# Altium integrated library Oscillator - Crystal.IntLib: 422 symbols (part 2 of 7)
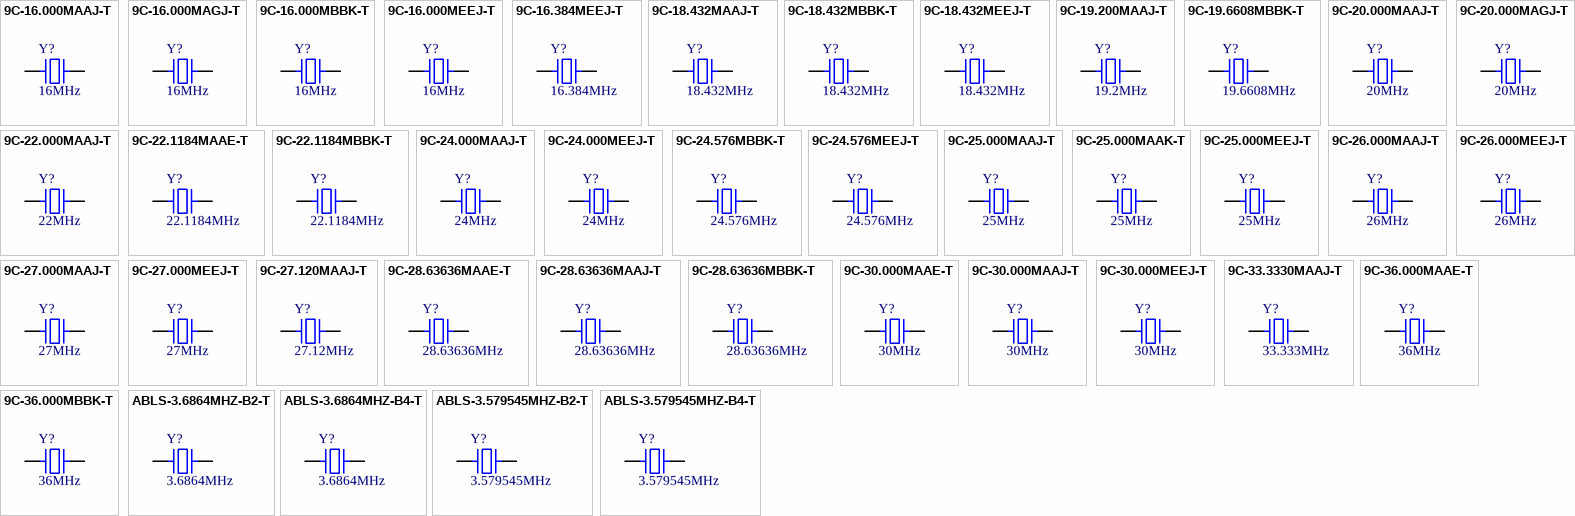
[diagram p11: symbols 9C-16.000MAAJ-T to ABLS-3.579545MHZ-B4-T]

## 9C-30.000MAAE-T
designator Y?, comment 30MHz
CRYSTAL 30.0000MHZ 12PF SMD; Part Number: 9C-30.000MAAE-T; Manufacturer: TXC CORPORATION; Frequency Stability: 30ppm; ESR: 40 Ohm; Operating Mode: Fundamental; PartId: 8710; Supplier 1: Digi-Key; Supplier Part Number 1: 887-2452-2-ND; ComponentLink1Description: Datasheet; ComponentLink1URL: http://www.txccrystal.com/images/pdf/9c.pdf; ComponentLink2Description: Digi-Key Listing; ComponentLink2URL: https://www.digikey.com/product-detail/en/9C-30.000MAAE-T/887-2452-2-ND/3674384; Price: 0.208; Type: MHz Crystal; Device Package: HC-49S; Series: 9C; Frequency: 30MHz; Frequency Tolerance: 30ppm; Load Capacitance: 12pF
footprint TXC 9C
pins: 1, 2

## 9C-30.000MAAJ-T
designator Y?, comment 30MHz
CRYSTAL 30.0000MHZ 18PF SMD; Part Number: 9C-30.000MAAJ-T; Manufacturer: TXC CORPORATION; Frequency Stability: 30ppm; ESR: 30 Ohm; Operating Mode: Fundamental; PartId: 8718; Supplier 1: Digi-Key; Supplier Part Number 1: 887-1072-2-ND; ComponentLink1Description: Datasheet; ComponentLink1URL: http://www.txccrystal.com/images/pdf/9c.pdf; ComponentLink2Description: Digi-Key Listing; ComponentLink2URL: https://www.digikey.com/product-detail/en/9C-30.000MAAJ-T/887-1072-2-ND/2118756; Price: 0.224; Type: MHz Crystal; Device Package: HC49/US; Series: 9C; Frequency: 30MHz; Frequency Tolerance: 30ppm; Load Capacitance: 18pF
footprint TXC 9C
pins: 1, 2

## 9C-30.000MEEJ-T
designator Y?, comment 30MHz
CRYSTAL 30.0000MHZ 18PF SMD; Part Number: 9C-30.000MEEJ-T; Manufacturer: TXC CORPORATION; Frequency Stability: 10ppm; ESR: 30 Ohm; Operating Mode: Fundamental; PartId: 8732; Supplier 1: Digi-Key; Supplier Part Number 1: 887-1287-2-ND; ComponentLink1Description: Datasheet; ComponentLink1URL: http://www.txccrystal.com/images/pdf/9c-accuracy.pdf; ComponentLink2Description: Digi-Key Listing; ComponentLink2URL: https://www.digikey.com/product-detail/en/9C-30.000MEEJ-T/887-1287-2-ND/2207707; Price: 0.288; Type: MHz Crystal; Device Package: HC49/US; Series: 9C; Frequency: 30MHz; Frequency Tolerance: 10ppm; Load Capacitance: 18pF
footprint TXC 9C
pins: 1, 2

## 9C-33.3330MAAJ-T
designator Y?, comment 33.333MHz
CRYSTAL 33.3330MHZ 18PF SMD; Part Number: 9C-33.3330MAAJ-T; Manufacturer: TXC CORPORATION; Frequency Stability: 30ppm; ESR: 80 Ohm; Operating Mode: 3rd Overtone; PartId: 8694; Supplier 1: Digi-Key; Supplier Part Number 1: 887-2458-2-ND; ComponentLink1Description: Datasheet; ComponentLink1URL: http://www.txccrystal.com/images/pdf/9c.pdf; ComponentLink2Description: Digi-Key Listing; ComponentLink2URL: https://www.digikey.com/product-detail/en/9C-33.3330MAAJ-T/887-2458-2-ND/4475370; Price: 0.224; Type: MHz Crystal; Device Package: HC-49S; Series: 9C; Frequency: 33.333MHz; Frequency Tolerance: 30ppm; Load Capacitance: 18pF
footprint TXC 9C
pins: 1, 2

## 9C-36.000MAAE-T
designator Y?, comment 36MHz
CRYSTAL 36.0000MHZ 12PF SMD; Part Number: 9C-36.000MAAE-T; Manufacturer: TXC CORPORATION; Frequency Stability: 30ppm; ESR: 80 Ohm; Operating Mode: 3rd Overtone; PartId: 8711; Supplier 1: Digi-Key; Supplier Part Number 1: 887-1937-2-ND; ComponentLink1Description: Datasheet; ComponentLink1URL: http://www.txccrystal.com/images/pdf/9c.pdf; ComponentLink2Description: Digi-Key Listing; ComponentLink2URL: https://www.digikey.com/product-detail/en/9C-36.000MAAE-T/887-1937-2-ND/3679811; Price: 0.208; Type: MHz Crystal; Device Package: HC-49S; Series: 9C; Frequency: 36MHz; Frequency Tolerance: 30ppm; Load Capacitance: 12pF
footprint TXC 9C
pins: 1, 2

## 9C-36.000MBBK-T
designator Y?, comment 36MHz
CRYSTAL 36.0000MHZ 20PF SMD; Part Number: 9C-36.000MBBK-T; Manufacturer: TXC CORPORATION; Frequency Stability: 50ppm; ESR: 80 Ohm; Operating Mode: 3rd Overtone; PartId: 8733; Supplier 1: Digi-Key; Supplier Part Number 1: 887-2460-2-ND; ComponentLink1Description: Datasheet; ComponentLink1URL: http://www.txccrystal.com/images/pdf/9c.pdf; ComponentLink2Description: Digi-Key Listing; ComponentLink2URL: https://www.digikey.com/product-detail/en/9C-36.000MBBK-T/887-2460-2-ND/3522032; Price: 0.192; Type: MHz Crystal; Device Package: HC-49S; Series: 9C; Frequency: 36MHz; Frequency Tolerance: 50ppm; Load Capacitance: 20pF
footprint TXC 9C
pins: 1, 2

## ABLS-3.6864MHZ-B2-T
designator Y?, comment 3.6864MHz
CRYSTAL 3.6864MHZ 18PF SMD; Part Number: ABLS-3.6864MHZ-B2-T; Manufacturer: Abracon LLC; Frequency Stability: 50ppm; Frequency Tolerance: 20ppm; ESR: 180 Ohm; Operating Mode: Fundamental; PartId: 8568; Supplier 1: Digi-Key; Supplier Part Number 1: 535-9082-2-ND; ComponentLink1Description: Datasheet; ComponentLink1URL: http://www.abracon.com/Resonators/abls.pdf; ComponentLink2Description: Digi-Key Listing; ComponentLink2URL: https://www.digikey.com/product-detail/en/ABLS-3.6864MHZ-B2-T/535-9082-2-ND/675277; Price: 0.176; Type: MHz Crystal; Device Package: HC49/US; Series: ABLS; Frequency: 3.6864MHz; Load Capacitance: 18pF
footprint ABRACON ABLS
pins: 1, 2

## ABLS-3.6864MHZ-B4-T
designator Y?, comment 3.6864MHz
CRYSTAL 3.6864MHZ 18PF SMD; Part Number: ABLS-3.6864MHZ-B4-T; Manufacturer: Abracon LLC; Frequency Stability: 50ppm; Frequency Tolerance: 30ppm; ESR: 180 Ohm; Operating Mode: Fundamental; PartId: 8562; Supplier 1: Digi-Key; Supplier Part Number 1: 535-10201-2-ND; ComponentLink1Description: Datasheet; ComponentLink1URL: http://www.abracon.com/Resonators/abls.pdf; ComponentLink2Description: Digi-Key Listing; ComponentLink2URL: https://www.digikey.com/product-detail/en/ABLS-3.6864MHZ-B4-T/535-10201-2-ND/2184144; Price: 0.176; Type: MHz Crystal; Device Package: HC49/US; Series: ABLS; Frequency: 3.6864MHz; Load Capacitance: 18pF
footprint ABRACON ABLS
pins: 1, 2

## ABLS-3.579545MHZ-B2-T
designator Y?, comment 3.579545MHz
CRYSTAL 3.579545MHZ 18PF SMD; Part Number: ABLS-3.579545MHZ-B2-T; Manufacturer: Abracon LLC; Frequency Stability: 50ppm; Frequency Tolerance: 20ppm; ESR: 180 Ohm; Operating Mode: Fundamental; PartId: 8543; Supplier 1: Digi-Key; Supplier Part Number 1: 535-9081-2-ND; ComponentLink1Description: Datasheet; ComponentLink1URL: http://www.abracon.com/Resonators/abls.pdf; ComponentLink2Description: Digi-Key Listing; ComponentLink2URL: https://www.digikey.com/product-detail/en/ABLS-3.579545MHZ-B2-T/535-9081-2-ND/675276; Price: 0.176; Type: MHz Crystal; Device Package: HC49/US; Frequency: 3.579545MHz; Load Capacitance: 18pF
footprint ABRACON ABLS
pins: 1, 2

## ABLS-3.579545MHZ-B4-T
designator Y?, comment 3.579545MHz
CRYSTAL 3.579545MHZ 18PF SMD; Part Number: ABLS-3.579545MHZ-B4-T; Manufacturer: Abracon LLC; Frequency Stability: 50ppm; Frequency Tolerance: 30ppm; ESR: 180 Ohm; Operating Mode: Fundamental; PartId: 8544; Supplier 1: Digi-Key; Supplier Part Number 1: 535-10200-2-ND; ComponentLink1Description: Datasheet; ComponentLink1URL: http://www.abracon.com/Resonators/abls.pdf; ComponentLink2Description: Digi-Key Listing; ComponentLink2URL: https://www.digikey.com/product-detail/en/ABLS-3.579545MHZ-B4-T/535-10200-2-ND/2184143; Price: 0.176; Type: MHz Crystal; Device Package: HC49/US; Frequency: 3.579545MHz; Load Capacitance: 18pF
footprint ABRACON ABLS
pins: 1, 2

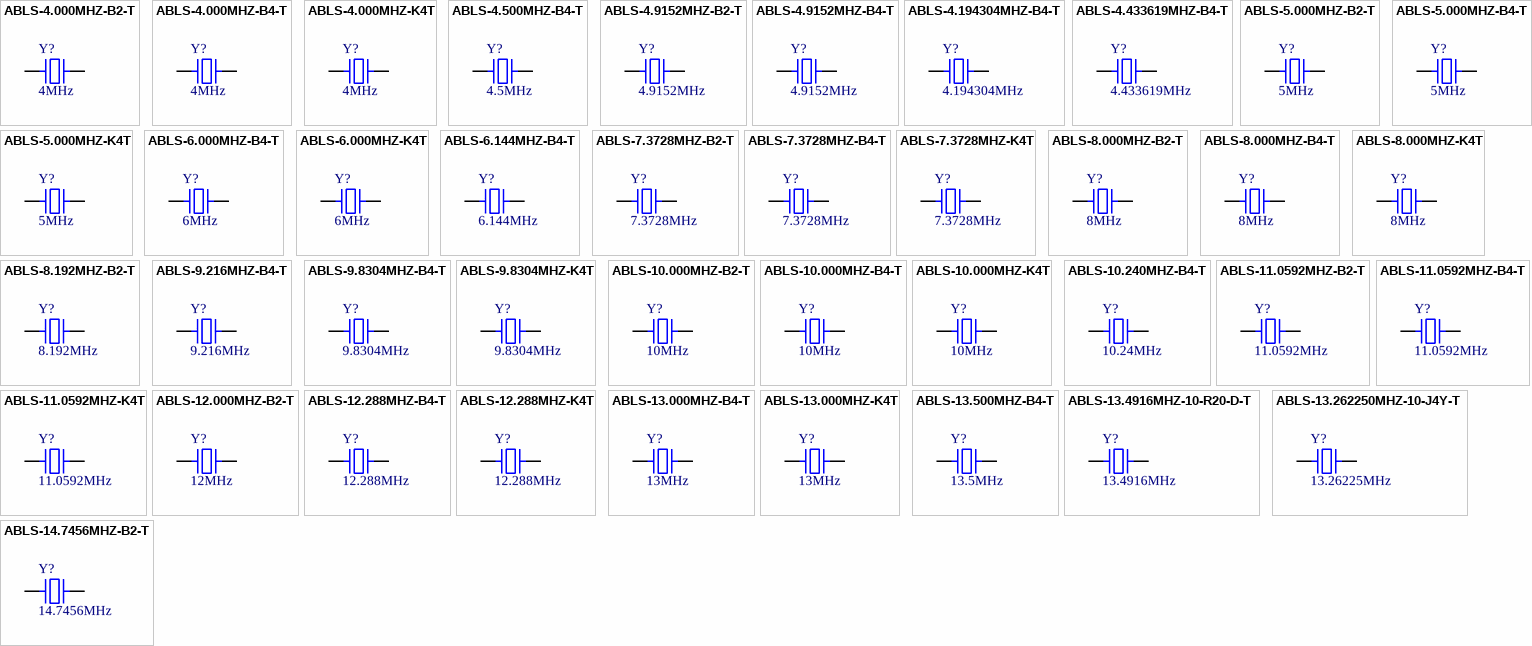
[diagram p2: symbols ABLS-4.000MHZ-B2-T to ABLS-14.7456MHZ-B2-T]

## ABLS-4.000MHZ-B2-T
designator Y?, comment 4MHz
CRYSTAL 4.0000MHZ 18PF SMD; Part Number: ABLS-4.000MHZ-B2-T; Manufacturer: Abracon LLC; Frequency Stability: 50ppm; Frequency Tolerance: 20ppm; ESR: 180 Ohm; Operating Mode: Fundamental; PartId: 8555; Supplier 1: Digi-Key; Supplier Part Number 1: 535-9085-2-ND; ComponentLink1Description: Datasheet; ComponentLink1URL: http://www.abracon.com/Resonators/abls.pdf; ComponentLink2Description: Digi-Key Listing; ComponentLink2URL: https://www.digikey.com/product-detail/en/ABLS-4.000MHZ-B2-T/535-9085-2-ND/675280; Price: 0.144; Type: MHz Crystal; Device Package: HC49/US; Series: ABLS; Frequency: 4MHz; Load Capacitance: 18pF
footprint ABRACON ABLS
pins: 1, 2

## ABLS-4.000MHZ-B4-T
designator Y?, comment 4MHz
CRYSTAL 4.0000MHZ 18PF SMD; Part Number: ABLS-4.000MHZ-B4-T; Manufacturer: Abracon LLC; Frequency Stability: 50ppm; Frequency Tolerance: 30ppm; ESR: 180 Ohm; Operating Mode: Fundamental; PartId: 8564; Supplier 1: Digi-Key; Supplier Part Number 1: 535-10202-2-ND; ComponentLink1Description: Datasheet; ComponentLink1URL: http://www.abracon.com/Resonators/abls.pdf; ComponentLink2Description: Digi-Key Listing; ComponentLink2URL: https://www.digikey.com/product-detail/en/ABLS-4.000MHZ-B4-T/535-10202-2-ND/2184145; Price: 0.176; Type: MHz Crystal; Device Package: HC49/US; Series: ABLS; Frequency: 4MHz; Load Capacitance: 18pF
footprint ABRACON ABLS
pins: 1, 2

## ABLS-4.000MHZ-K4T
designator Y?, comment 4MHz
CRYSTAL 4.0000MHZ 18PF SMD; Part Number: ABLS-4.000MHZ-K4T; Manufacturer: Abracon LLC; Frequency Stability: 50ppm; Frequency Tolerance: 30ppm; ESR: 180 Ohm; Operating Mode: Fundamental; PartId: 8578; Supplier 1: Digi-Key; Supplier Part Number 1: 535-9930-2-ND; ComponentLink1Description: Datasheet; ComponentLink1URL: http://www.abracon.com/Resonators/abls.pdf; ComponentLink2Description: Digi-Key Listing; ComponentLink2URL: https://www.digikey.com/product-detail/en/ABLS-4.000MHZ-K4T/535-9930-2-ND/2001297; Price: 0.405; Type: MHz Crystal; Device Package: HC49/US; Series: ABLS; Frequency: 4MHz; Load Capacitance: 18pF
footprint ABRACON ABLS
pins: 1, 2

## ABLS-4.500MHZ-B4-T
designator Y?, comment 4.5MHz
CRYSTAL 4.5000MHZ 18PF SMD; Part Number: ABLS-4.500MHZ-B4-T; Manufacturer: Abracon LLC; Frequency Stability: 50ppm; Frequency Tolerance: 30ppm; ESR: 180 Ohm; Operating Mode: Fundamental; PartId: 8585; Supplier 1: Digi-Key; Supplier Part Number 1: 535-10205-2-ND; ComponentLink1Description: Datasheet; ComponentLink1URL: http://www.abracon.com/Resonators/abls.pdf; ComponentLink2Description: Digi-Key Listing; ComponentLink2URL: https://www.digikey.com/product-detail/en/ABLS-4.500MHZ-B4-T/535-10205-2-ND/2184148; Price: 0.176; Type: MHz Crystal; Device Package: HC49/US; Series: ABLS; Frequency: 4.5MHz; Load Capacitance: 18pF
footprint ABRACON ABLS
pins: 1, 2

## ABLS-4.9152MHZ-B2-T
designator Y?, comment 4.9152MHz
CRYSTAL 4.9152MHZ 18PF SMD; Part Number: ABLS-4.9152MHZ-B2-T; Manufacturer: Abracon LLC; Frequency Stability: 50ppm; Frequency Tolerance: 20ppm; ESR: 180 Ohm; Operating Mode: Fundamental; PartId: 8574; Supplier 1: Digi-Key; Supplier Part Number 1: 535-9086-2-ND; ComponentLink1Description: Datasheet; ComponentLink1URL: http://www.abracon.com/Resonators/abls.pdf; ComponentLink2Description: Digi-Key Listing; ComponentLink2URL: https://www.digikey.com/product-detail/en/ABLS-4.9152MHZ-B2-T/535-9086-2-ND/675281; Price: 0.24; Type: MHz Crystal; Device Package: HC49/US; Series: ABLS; Frequency: 4.9152MHz; Load Capacitance: 18pF
footprint ABRACON ABLS
pins: 1, 2

## ABLS-4.9152MHZ-B4-T
designator Y?, comment 4.9152MHz
CRYSTAL 4.9152MHZ 18PF SMD; Part Number: ABLS-4.9152MHZ-B4-T; Manufacturer: Abracon LLC; Frequency Stability: 50ppm; Frequency Tolerance: 30ppm; ESR: 180 Ohm; Operating Mode: Fundamental; PartId: 8602; Supplier 1: Digi-Key; Supplier Part Number 1: 535-10206-2-ND; ComponentLink1Description: Datasheet; ComponentLink1URL: http://www.abracon.com/Resonators/abls.pdf; ComponentLink2Description: Digi-Key Listing; ComponentLink2URL: https://www.digikey.com/product-detail/en/ABLS-4.9152MHZ-B4-T/535-10206-2-ND/2184149; Price: 0.176; Type: MHz Crystal; Device Package: HC49/US; Series: ABLS; Frequency: 4.9152MHz; Load Capacitance: 18pF
footprint ABRACON ABLS
pins: 1, 2

## ABLS-4.194304MHZ-B4-T
designator Y?, comment 4.194304MHz
CRYSTAL 4.194304MHZ 18PF SMD; Part Number: ABLS-4.194304MHZ-B4-T; Manufacturer: Abracon LLC; Frequency Stability: 50ppm; Frequency Tolerance: 30ppm; ESR: 180 Ohm; Operating Mode: Fundamental; PartId: 8597; Supplier 1: Digi-Key; Supplier Part Number 1: 535-10203-2-ND; ComponentLink1Description: Datasheet; ComponentLink1URL: http://www.abracon.com/Resonators/abls.pdf; ComponentLink2Description: Digi-Key Listing; ComponentLink2URL: https://www.digikey.com/product-detail/en/ABLS-4.194304MHZ-B4-T/535-10203-2-ND/2184146; Price: 0.176; Type: MHz Crystal; Device Package: HC49/US; Series: ABLS; Frequency: 4.194304MHz; Load Capacitance: 18pF
footprint ABRACON ABLS
pins: 1, 2

## ABLS-4.433619MHZ-B4-T
designator Y?, comment 4.433619MHz
CRYSTAL 4.433619MHZ 18PF SMD; Part Number: ABLS-4.433619MHZ-B4-T; Manufacturer: Abracon LLC; Frequency Stability: 50ppm; Frequency Tolerance: 30ppm; ESR: 180 Ohm; Operating Mode: Fundamental; PartId: 8584; Supplier 1: Digi-Key; Supplier Part Number 1: 535-10204-2-ND; ComponentLink1Description: Datasheet; ComponentLink1URL: http://www.abracon.com/Resonators/abls.pdf; ComponentLink2Description: Digi-Key Listing; ComponentLink2URL: https://www.digikey.com/product-detail/en/ABLS-4.433619MHZ-B4-T/535-10204-2-ND/2184147; Price: 0.176; Type: MHz Crystal; Device Package: HC49/US; Series: ABLS; Frequency: 4.433619MHz; Load Capacitance: 18pF
footprint ABRACON ABLS
pins: 1, 2

## ABLS-5.000MHZ-B2-T
designator Y?, comment 5MHz
CRYSTAL 5.0000MHZ 18PF SMD; Part Number: ABLS-5.000MHZ-B2-T; Manufacturer: Abracon LLC; Frequency Stability: 50ppm; Frequency Tolerance: 20ppm; ESR: 120 Ohm; Operating Mode: Fundamental; PartId: 8609; Supplier 1: Digi-Key; Supplier Part Number 1: 535-9087-2-ND; ComponentLink1Description: Datasheet; ComponentLink1URL: http://www.abracon.com/Resonators/abls.pdf; ComponentLink2Description: Digi-Key Listing; ComponentLink2URL: https://www.digikey.com/product-detail/en/ABLS-5.000MHZ-B2-T/535-9087-2-ND/675282; Price: 0.24; Type: MHz Crystal; Device Package: HC49/US; Series: ABLS; Frequency: 5MHz; Load Capacitance: 18pF
footprint ABRACON ABLS
pins: 1, 2

## ABLS-5.000MHZ-B4-T
designator Y?, comment 5MHz
CRYSTAL 5.0000MHZ 18PF SMD; Part Number: ABLS-5.000MHZ-B4-T; Manufacturer: Abracon LLC; Frequency Stability: 50ppm; Frequency Tolerance: 30ppm; ESR: 120 Ohm; Operating Mode: Fundamental; PartId: 8569; Supplier 1: Digi-Key; Supplier Part Number 1: 535-10207-2-ND; ComponentLink1Description: Datasheet; ComponentLink1URL: http://www.abracon.com/Resonators/abls.pdf; ComponentLink2Description: Digi-Key Listing; ComponentLink2URL: https://www.digikey.com/product-detail/en/ABLS-5.000MHZ-B4-T/535-10207-2-ND/2184150; Price: 0.176; Type: MHz Crystal; Device Package: HC49/US; Series: ABLS; Frequency: 5MHz; Load Capacitance: 18pF
footprint ABRACON ABLS
pins: 1, 2

## ABLS-5.000MHZ-K4T
designator Y?, comment 5MHz
CRYSTAL 5.0000MHZ 18PF SMD; Part Number: ABLS-5.000MHZ-K4T; Manufacturer: Abracon LLC; Frequency Stability: 50ppm; Frequency Tolerance: 30ppm; ESR: 120 Ohm; Operating Mode: Fundamental; PartId: 8592; Supplier 1: Digi-Key; Supplier Part Number 1: 535-9933-2-ND; ComponentLink1Description: Datasheet; ComponentLink1URL: http://www.abracon.com/Resonators/abls.pdf; ComponentLink2Description: Digi-Key Listing; ComponentLink2URL: https://www.digikey.com/product-detail/en/ABLS-5.000MHZ-K4T/535-9933-2-ND/2001300; Price: 0.405; Type: MHz Crystal; Device Package: HC49/US; Series: ABLS; Frequency: 5MHz; Load Capacitance: 18pF
footprint ABRACON ABLS
pins: 1, 2

## ABLS-6.000MHZ-B4-T
designator Y?, comment 6MHz
CRYSTAL 6.0000MHZ 18PF SMD; Part Number: ABLS-6.000MHZ-B4-T; Manufacturer: Abracon LLC; Frequency Stability: 50ppm; Frequency Tolerance: 30ppm; ESR: 100 Ohm; Operating Mode: Fundamental; PartId: 8561; Supplier 1: Digi-Key; Supplier Part Number 1: 535-10208-2-ND; ComponentLink1Description: Datasheet; ComponentLink1URL: http://www.abracon.com/Resonators/abls.pdf; ComponentLink2Description: Digi-Key Listing; ComponentLink2URL: https://www.digikey.com/product-detail/en/ABLS-6.000MHZ-B4-T/535-10208-2-ND/2184151; Price: 0.176; Type: MHz Crystal; Device Package: HC49/US; Series: ABLS; Frequency: 6MHz; Load Capacitance: 18pF
footprint ABRACON ABLS
pins: 1, 2

## ABLS-6.000MHZ-K4T
designator Y?, comment 6MHz
CRYSTAL 6.0000MHZ 18PF SMD; Part Number: ABLS-6.000MHZ-K4T; Manufacturer: Abracon LLC; Frequency Stability: 50ppm; Frequency Tolerance: 30ppm; ESR: 100 Ohm; Operating Mode: Fundamental; PartId: 8590; Supplier 1: Digi-Key; Supplier Part Number 1: 535-9934-2-ND; ComponentLink1Description: Datasheet; ComponentLink1URL: http://www.abracon.com/Resonators/abls.pdf; ComponentLink2Description: Digi-Key Listing; ComponentLink2URL: https://www.digikey.com/product-detail/en/ABLS-6.000MHZ-K4T/535-9934-2-ND/2001301; Price: 0.405; Type: MHz Crystal; Device Package: HC49/US; Series: ABLS; Frequency: 6MHz; Load Capacitance: 18pF
footprint ABRACON ABLS
pins: 1, 2

## ABLS-6.144MHZ-B4-T
designator Y?, comment 6.144MHz
CRYSTAL 6.1440MHZ 18PF SMD; Part Number: ABLS-6.144MHZ-B4-T; Manufacturer: Abracon LLC; Frequency Stability: 50ppm; Frequency Tolerance: 30ppm; ESR: 100 Ohm; Operating Mode: Fundamental; PartId: 8570; Supplier 1: Digi-Key; Supplier Part Number 1: 535-10209-2-ND; ComponentLink1Description: Datasheet; ComponentLink1URL: http://www.abracon.com/Resonators/abls.pdf; ComponentLink2Description: Digi-Key Listing; ComponentLink2URL: https://www.digikey.com/product-detail/en/ABLS-6.144MHZ-B4-T/535-10209-2-ND/2184152; Price: 0.176; Type: MHz Crystal; Device Package: HC49/US; Series: ABLS; Frequency: 6.144MHz; Load Capacitance: 18pF
footprint ABRACON ABLS
pins: 1, 2

## ABLS-7.3728MHZ-B2-T
designator Y?, comment 7.3728MHz
CRYSTAL 7.3728MHZ 18PF SMD; Part Number: ABLS-7.3728MHZ-B2-T; Manufacturer: Abracon LLC; Frequency Stability: 50ppm; Frequency Tolerance: 20ppm; ESR: 100 Ohm; Operating Mode: Fundamental; PartId: 8550; Supplier 1: Digi-Key; Supplier Part Number 1: 535-9088-2-ND; ComponentLink1Description: Datasheet; ComponentLink1URL: http://www.abracon.com/Resonators/abls.pdf; ComponentLink2Description: Digi-Key Listing; ComponentLink2URL: https://www.digikey.com/product-detail/en/ABLS-7.3728MHZ-B2-T/535-9088-2-ND/675283; Price: 0.144; Type: MHz Crystal; Device Package: HC49/US; Series: ABLS; Frequency: 7.3728MHz; Load Capacitance: 18pF
footprint ABRACON ABLS
pins: 1, 2

## ABLS-7.3728MHZ-B4-T
designator Y?, comment 7.3728MHz
CRYSTAL 7.3728MHZ 18PF SMD; Part Number: ABLS-7.3728MHZ-B4-T; Manufacturer: Abracon LLC; Frequency Stability: 50ppm; Frequency Tolerance: 30ppm; ESR: 100 Ohm; Operating Mode: Fundamental; PartId: 8563; Supplier 1: Digi-Key; Supplier Part Number 1: 535-10211-2-ND; ComponentLink1Description: Datasheet; ComponentLink1URL: http://www.abracon.com/Resonators/abls.pdf; ComponentLink2Description: Digi-Key Listing; ComponentLink2URL: https://www.digikey.com/product-detail/en/ABLS-7.3728MHZ-B4-T/535-10211-2-ND/2184154; Price: 0.176; Type: MHz Crystal; Device Package: HC49/US; Series: ABLS; Frequency: 7.3728MHz; Load Capacitance: 18pF
footprint ABRACON ABLS
pins: 1, 2

## ABLS-7.3728MHZ-K4T
designator Y?, comment 7.3728MHz
CRYSTAL 7.3728MHZ 18PF SMD; Part Number: ABLS-7.3728MHZ-K4T; Manufacturer: Abracon LLC; Frequency Stability: 50ppm; Frequency Tolerance: 30ppm; ESR: 100 Ohm; Operating Mode: Fundamental; PartId: 8612; Supplier 1: Digi-Key; Supplier Part Number 1: 535-9936-2-ND; ComponentLink1Description: Datasheet; ComponentLink1URL: http://www.abracon.com/Resonators/abls.pdf; ComponentLink2Description: Digi-Key Listing; ComponentLink2URL: https://www.digikey.com/product-detail/en/ABLS-7.3728MHZ-K4T/535-9936-2-ND/2001303; Price: 0.405; Type: MHz Crystal; Device Package: HC49/US; Series: ABLS; Frequency: 7.3728MHz; Load Capacitance: 18pF
footprint ABRACON ABLS
pins: 1, 2

## ABLS-8.000MHZ-B2-T
designator Y?, comment 8MHz
CRYSTAL 8.0000MHZ 18PF SMD; Part Number: ABLS-8.000MHZ-B2-T; Manufacturer: Abracon LLC; Frequency Stability: 50ppm; Frequency Tolerance: 20ppm; ESR: 80 Ohm; Operating Mode: Fundamental; PartId: 8547; Supplier 1: Digi-Key; Supplier Part Number 1: 535-9089-2-ND; ComponentLink1Description: Datasheet; ComponentLink1URL: http://www.abracon.com/Resonators/abls.pdf; ComponentLink2Description: Digi-Key Listing; ComponentLink2URL: https://www.digikey.com/product-detail/en/ABLS-8.000MHZ-B2-T/535-9089-2-ND/675284; Price: 0.144; Type: MHz Crystal; Device Package: HC49/US; Series: ABLS; Frequency: 8MHz; Load Capacitance: 18pF
footprint ABRACON ABLS
pins: 1, 2

## ABLS-8.000MHZ-B4-T
designator Y?, comment 8MHz
CRYSTAL 8.0000MHZ 18PF SMD; Part Number: ABLS-8.000MHZ-B4-T; Manufacturer: Abracon LLC; Frequency Stability: 50ppm; Frequency Tolerance: 30ppm; ESR: 80 Ohm; Operating Mode: Fundamental; PartId: 8545; Supplier 1: Digi-Key; Supplier Part Number 1: 535-10212-2-ND; ComponentLink1Description: Datasheet; ComponentLink1URL: http://www.abracon.com/Resonators/abls.pdf; ComponentLink2Description: Digi-Key Listing; ComponentLink2URL: https://www.digikey.com/product-detail/en/ABLS-8.000MHZ-B4-T/535-10212-2-ND/2184155; Price: 0.1376; Type: MHz Crystal; Device Package: HC49/US; Series: ABLS; Frequency: 8MHz; Load Capacitance: 18pF
footprint ABRACON ABLS
pins: 1, 2

## ABLS-8.000MHZ-K4T
designator Y?, comment 8MHz
CRYSTAL 8.0000MHZ 18PF SMD; Part Number: ABLS-8.000MHZ-K4T; Manufacturer: Abracon LLC; Frequency Stability: 50ppm; Frequency Tolerance: 30ppm; ESR: 80 Ohm; Operating Mode: Fundamental; PartId: 8552; Supplier 1: Digi-Key; Supplier Part Number 1: 535-9937-2-ND; ComponentLink1Description: Datasheet; ComponentLink1URL: http://www.abracon.com/Resonators/abls.pdf; ComponentLink2Description: Digi-Key Listing; ComponentLink2URL: https://www.digikey.com/product-detail/en/ABLS-8.000MHZ-K4T/535-9937-2-ND/2001304; Price: 0.375; Type: MHz Crystal; Device Package: HC49/US; Series: ABLS; Frequency: 8MHz; Load Capacitance: 18pF
footprint ABRACON ABLS
pins: 1, 2

## ABLS-8.192MHZ-B2-T
designator Y?, comment 8.192MHz
CRYSTAL 8.1920MHZ 18PF SMD; Part Number: ABLS-8.192MHZ-B2-T; Manufacturer: Abracon LLC; Frequency Stability: 50ppm; Frequency Tolerance: 20ppm; ESR: 80 Ohm; Operating Mode: Fundamental; PartId: 8556; Supplier 1: Digi-Key; Supplier Part Number 1: 535-9090-2-ND; ComponentLink1Description: Datasheet; ComponentLink1URL: http://www.abracon.com/Resonators/abls.pdf; ComponentLink2Description: Digi-Key Listing; ComponentLink2URL: https://www.digikey.com/product-detail/en/ABLS-8.192MHZ-B2-T/535-9090-2-ND/675285; Price: 0.144; Type: MHz Crystal; Device Package: HC49/US; Series: ABLS; Frequency: 8.192MHz; Load Capacitance: 18pF
footprint ABRACON ABLS
pins: 1, 2

## ABLS-9.216MHZ-B4-T
designator Y?, comment 9.216MHz
CRYSTAL 9.2160MHZ 18PF SMD; Part Number: ABLS-9.216MHZ-B4-T; Manufacturer: Abracon LLC; Frequency Stability: 50ppm; Frequency Tolerance: 30ppm; ESR: 60 Ohm; Operating Mode: Fundamental; PartId: 8583; Supplier 1: Digi-Key; Supplier Part Number 1: 535-10213-2-ND; ComponentLink1Description: Datasheet; ComponentLink1URL: http://www.abracon.com/Resonators/abls.pdf; ComponentLink2Description: Digi-Key Listing; ComponentLink2URL: https://www.digikey.com/product-detail/en/ABLS-9.216MHZ-B4-T/535-10213-2-ND/2184156; Price: 0.176; Type: MHz Crystal; Device Package: HC49/US; Series: ABLS; Frequency: 9.216MHz; Load Capacitance: 18pF
footprint ABRACON ABLS
pins: 1, 2

## ABLS-9.8304MHZ-B4-T
designator Y?, comment 9.8304MHz
CRYSTAL 9.8304MHZ 18PF SMD; Part Number: ABLS-9.8304MHZ-B4-T; Manufacturer: Abracon LLC; Frequency Stability: 50ppm; Frequency Tolerance: 30ppm; ESR: 60 Ohm; Operating Mode: Fundamental; PartId: 8565; Supplier 1: Digi-Key; Supplier Part Number 1: 535-10214-2-ND; ComponentLink1Description: Datasheet; ComponentLink1URL: http://www.abracon.com/Resonators/abls.pdf; ComponentLink2Description: Digi-Key Listing; ComponentLink2URL: https://www.digikey.com/product-detail/en/ABLS-9.8304MHZ-B4-T/535-10214-2-ND/2184157; Price: 0.176; Type: MHz Crystal; Device Package: HC49/US; Series: ABLS; Frequency: 9.8304MHz; Load Capacitance: 18pF
footprint ABRACON ABLS
pins: 1, 2

## ABLS-9.8304MHZ-K4T
designator Y?, comment 9.8304MHz
CRYSTAL 9.8304MHZ 18PF SMD; Part Number: ABLS-9.8304MHZ-K4T; Manufacturer: Abracon LLC; Frequency Stability: 50ppm; Frequency Tolerance: 30ppm; ESR: 60 Ohm; Operating Mode: Fundamental; PartId: 8616; Supplier 1: Digi-Key; Supplier Part Number 1: 535-9939-2-ND; ComponentLink1Description: Datasheet; ComponentLink1URL: http://www.abracon.com/Resonators/abls.pdf; ComponentLink2Description: Digi-Key Listing; ComponentLink2URL: https://www.digikey.com/product-detail/en/ABLS-9.8304MHZ-K4T/535-9939-2-ND/2001306; Price: 0.405; Type: MHz Crystal; Device Package: HC49/US; Series: ABLS; Frequency: 9.8304MHz; Load Capacitance: 18pF
footprint ABRACON ABLS
pins: 1, 2

## ABLS-10.000MHZ-B2-T
designator Y?, comment 10MHz
CRYSTAL 10.0000MHZ 18PF SMD; Part Number: ABLS-10.000MHZ-B2-T; Manufacturer: Abracon LLC; Frequency Stability: 50ppm; Frequency Tolerance: 20ppm; ESR: 50 Ohm; Operating Mode: Fundamental; PartId: 8554; Supplier 1: Digi-Key; Supplier Part Number 1: 535-9065-2-ND; ComponentLink1Description: Datasheet; ComponentLink1URL: http://www.abracon.com/Resonators/abls.pdf; ComponentLink2Description: Digi-Key Listing; ComponentLink2URL: https://www.digikey.com/product-detail/en/ABLS-10.000MHZ-B2-T/535-9065-2-ND/675260; Price: 0.144; Type: MHz Crystal; Device Package: HC49/US; Series: ABLS; Frequency: 10MHz; Load Capacitance: 18pF
footprint ABRACON ABLS
pins: 1, 2

## ABLS-10.000MHZ-B4-T
designator Y?, comment 10MHz
CRYSTAL 10.0000MHZ 18PF SMD; Part Number: ABLS-10.000MHZ-B4-T; Manufacturer: Abracon LLC; Frequency Stability: 50ppm; Frequency Tolerance: 30ppm; ESR: 50 Ohm; Operating Mode: Fundamental; PartId: 8558; Supplier 1: Digi-Key; Supplier Part Number 1: 535-10215-2-ND; ComponentLink1Description: Datasheet; ComponentLink1URL: http://www.abracon.com/Resonators/abls.pdf; ComponentLink2Description: Digi-Key Listing; ComponentLink2URL: https://www.digikey.com/product-detail/en/ABLS-10.000MHZ-B4-T/535-10215-2-ND/2184158; Price: 0.16; Type: MHz Crystal; Device Package: HC49/US; Series: ABLS; Frequency: 10MHz; Load Capacitance: 18pF
footprint ABRACON ABLS
pins: 1, 2

## ABLS-10.000MHZ-K4T
designator Y?, comment 10MHz
CRYSTAL 10.0000MHZ 18PF SMD; Part Number: ABLS-10.000MHZ-K4T; Manufacturer: Abracon LLC; Frequency Stability: 50ppm; Frequency Tolerance: 30ppm; ESR: 50 Ohm; Operating Mode: Fundamental; PartId: 8551; Supplier 1: Digi-Key; Supplier Part Number 1: 535-9940-2-ND; ComponentLink1Description: Datasheet; ComponentLink1URL: http://www.abracon.com/Resonators/abls.pdf; ComponentLink2Description: Digi-Key Listing; ComponentLink2URL: https://www.digikey.com/product-detail/en/ABLS-10.000MHZ-K4T/535-9940-2-ND/2001307; Price: 0.375; Type: MHz Crystal; Device Package: HC49/US; Series: ABLS; Frequency: 10MHz; Load Capacitance: 18pF
footprint ABRACON ABLS
pins: 1, 2

## ABLS-10.240MHZ-B4-T
designator Y?, comment 10.24MHz
CRYSTAL 10.2400MHZ 18PF SMD; Part Number: ABLS-10.240MHZ-B4-T; Manufacturer: Abracon LLC; Frequency Stability: 50ppm; Frequency Tolerance: 30ppm; ESR: 50 Ohm; Operating Mode: Fundamental; PartId: 8595; Supplier 1: Digi-Key; Supplier Part Number 1: 535-10216-2-ND; ComponentLink1Description: Datasheet; ComponentLink1URL: http://www.abracon.com/Resonators/abls.pdf; ComponentLink2Description: Digi-Key Listing; ComponentLink2URL: https://www.digikey.com/product-detail/en/ABLS-10.240MHZ-B4-T/535-10216-2-ND/2184159; Price: 0.176; Type: MHz Crystal; Device Package: HC49/US; Series: ABLS; Frequency: 10.24MHz; Load Capacitance: 18pF
footprint ABRACON ABLS
pins: 1, 2

## ABLS-11.0592MHZ-B2-T
designator Y?, comment 11.0592MHz
CRYSTAL 11.0592MHZ 18PF SMD; Part Number: ABLS-11.0592MHZ-B2-T; Manufacturer: Abracon LLC; Frequency Stability: 50ppm; Frequency Tolerance: 20ppm; ESR: 50 Ohm; Operating Mode: Fundamental; PartId: 8575; Supplier 1: Digi-Key; Supplier Part Number 1: 535-9066-2-ND; ComponentLink1Description: Datasheet; ComponentLink1URL: http://www.abracon.com/Resonators/abls.pdf; ComponentLink2Description: Digi-Key Listing; ComponentLink2URL: https://www.digikey.com/product-detail/en/ABLS-11.0592MHZ-B2-T/535-9066-2-ND/675261; Price: 0.24; Type: MHz Crystal; Device Package: HC49/US; Series: ABLS; Frequency: 11.0592MHz; Load Capacitance: 18pF
footprint ABRACON ABLS
pins: 1, 2

## ABLS-11.0592MHZ-B4-T
designator Y?, comment 11.0592MHz
CRYSTAL 11.0592MHZ 18PF SMD; Part Number: ABLS-11.0592MHZ-B4-T; Manufacturer: Abracon LLC; Frequency Stability: 50ppm; Frequency Tolerance: 30ppm; ESR: 50 Ohm; Operating Mode: Fundamental; PartId: 8601; Supplier 1: Digi-Key; Supplier Part Number 1: 535-10217-2-ND; ComponentLink1Description: Datasheet; ComponentLink1URL: http://www.abracon.com/Resonators/abls.pdf; ComponentLink2Description: Digi-Key Listing; ComponentLink2URL: https://www.digikey.com/product-detail/en/ABLS-11.0592MHZ-B4-T/535-10217-2-ND/2184160; Price: 0.176; Type: MHz Crystal; Device Package: HC49/US; Series: ABLS; Frequency: 11.0592MHz; Load Capacitance: 18pF
footprint ABRACON ABLS
pins: 1, 2

## ABLS-11.0592MHZ-K4T
designator Y?, comment 11.0592MHz
CRYSTAL 11.0592MHZ 18PF SMD; Part Number: ABLS-11.0592MHZ-K4T; Manufacturer: Abracon LLC; Frequency Stability: 50ppm; Frequency Tolerance: 30ppm; ESR: 50 Ohm; Operating Mode: Fundamental; PartId: 8617; Supplier 1: Digi-Key; Supplier Part Number 1: 535-9941-2-ND; ComponentLink1Description: Datasheet; ComponentLink1URL: http://www.abracon.com/Resonators/abls.pdf; ComponentLink2Description: Digi-Key Listing; ComponentLink2URL: https://www.digikey.com/product-detail/en/ABLS-11.0592MHZ-K4T/535-9941-2-ND/2001308; Price: 0.405; Type: MHz Crystal; Device Package: HC49/US; Series: ABLS; Frequency: 11.0592MHz; Load Capacitance: 18pF
footprint ABRACON ABLS
pins: 1, 2

## ABLS-12.000MHZ-B2-T
designator Y?, comment 12MHz
CRYSTAL 12.0000MHZ 18PF SMD; Part Number: ABLS-12.000MHZ-B2-T; Manufacturer: Abracon LLC; Frequency Stability: 50ppm; Frequency Tolerance: 20ppm; ESR: 50 Ohm; Operating Mode: Fundamental; PartId: 8548; Supplier 1: Digi-Key; Supplier Part Number 1: 535-9067-2-ND; ComponentLink1Description: Datasheet; ComponentLink1URL: http://www.abracon.com/Resonators/abls.pdf; ComponentLink2Description: Digi-Key Listing; ComponentLink2URL: https://www.digikey.com/product-detail/en/ABLS-12.000MHZ-B2-T/535-9067-2-ND/675262; Price: 0.144; Type: MHz Crystal; Device Package: HC49/US; Series: ABLS; Frequency: 12MHz; Load Capacitance: 18pF
footprint ABRACON ABLS
pins: 1, 2

## ABLS-12.288MHZ-B4-T
designator Y?, comment 12.288MHz
CRYSTAL 12.2880MHZ 18PF SMD; Part Number: ABLS-12.288MHZ-B4-T; Manufacturer: Abracon LLC; Frequency Stability: 50ppm; Frequency Tolerance: 30ppm; ESR: 50 Ohm; Operating Mode: Fundamental; PartId: 8571; Supplier 1: Digi-Key; Supplier Part Number 1: 535-10219-2-ND; ComponentLink1Description: Datasheet; ComponentLink1URL: http://www.abracon.com/Resonators/abls.pdf; ComponentLink2Description: Digi-Key Listing; ComponentLink2URL: https://www.digikey.com/product-detail/en/ABLS-12.288MHZ-B4-T/535-10219-2-ND/2184162; Price: 0.176; Type: MHz Crystal; Device Package: HC49/US; Series: ABLS; Frequency: 12.288MHz; Load Capacitance: 18pF
footprint ABRACON ABLS
pins: 1, 2

## ABLS-12.288MHZ-K4T
designator Y?, comment 12.288MHz
CRYSTAL 12.2880MHZ 18PF SMD; Part Number: ABLS-12.288MHZ-K4T; Manufacturer: Abracon LLC; Frequency Stability: 50ppm; Frequency Tolerance: 30ppm; ESR: 50 Ohm; Operating Mode: Fundamental; PartId: 8591; Supplier 1: Digi-Key; Supplier Part Number 1: 535-9943-2-ND; ComponentLink1Description: Datasheet; ComponentLink1URL: http://www.abracon.com/Resonators/abls.pdf; ComponentLink2Description: Digi-Key Listing; ComponentLink2URL: https://www.digikey.com/product-detail/en/ABLS-12.288MHZ-K4T/535-9943-2-ND/2001310; Price: 0.405; Type: MHz Crystal; Device Package: HC49/US; Series: ABLS; Frequency: 12.288MHz; Load Capacitance: 18pF
footprint ABRACON ABLS
pins: 1, 2

## ABLS-13.000MHZ-B4-T
designator Y?, comment 13MHz
CRYSTAL 13.0000MHZ 18PF SMD; Part Number: ABLS-13.000MHZ-B4-T; Manufacturer: Abracon LLC; Frequency Stability: 50ppm; Frequency Tolerance: 30ppm; ESR: 50 Ohm; Operating Mode: Fundamental; PartId: 8572; Supplier 1: Digi-Key; Supplier Part Number 1: 535-10220-2-ND; ComponentLink1Description: Datasheet; ComponentLink1URL: http://www.abracon.com/Resonators/abls.pdf; ComponentLink2Description: Digi-Key Listing; ComponentLink2URL: https://www.digikey.com/product-detail/en/ABLS-13.000MHZ-B4-T/535-10220-2-ND/2184163; Price: 0.176; Type: MHz Crystal; Device Package: HC49/US; Series: ABLS; Frequency: 13MHz; Load Capacitance: 18pF
footprint ABRACON ABLS
pins: 1, 2

## ABLS-13.000MHZ-K4T
designator Y?, comment 13MHz
CRYSTAL 13.0000MHZ 18PF SMD; Part Number: ABLS-13.000MHZ-K4T; Manufacturer: Abracon LLC; Frequency Stability: 50ppm; Frequency Tolerance: 30ppm; ESR: 50 Ohm; Operating Mode: Fundamental; PartId: 8619; Supplier 1: Digi-Key; Supplier Part Number 1: 535-9944-2-ND; ComponentLink1Description: Datasheet; ComponentLink1URL: http://www.abracon.com/Resonators/abls.pdf; ComponentLink2Description: Digi-Key Listing; ComponentLink2URL: https://www.digikey.com/product-detail/en/ABLS-13.000MHZ-K4T/535-9944-2-ND/2001311; Price: 0.405; Type: MHz Crystal; Device Package: HC49/US; Series: ABLS; Frequency: 13MHz; Load Capacitance: 18pF
footprint ABRACON ABLS
pins: 1, 2

## ABLS-13.500MHZ-B4-T
designator Y?, comment 13.5MHz
CRYSTAL 13.5000MHZ 18PF SMD; Part Number: ABLS-13.500MHZ-B4-T; Manufacturer: Abracon LLC; Frequency Stability: 50ppm; Frequency Tolerance: 30ppm; ESR: 50 Ohm; Operating Mode: Fundamental; PartId: 8599; Supplier 1: Digi-Key; Supplier Part Number 1: 535-10221-2-ND; ComponentLink1Description: Datasheet; ComponentLink1URL: http://www.abracon.com/Resonators/abls.pdf; ComponentLink2Description: Digi-Key Listing; ComponentLink2URL: https://www.digikey.com/product-detail/en/ABLS-13.500MHZ-B4-T/535-10221-2-ND/2184164; Price: 0.176; Type: MHz Crystal; Device Package: HC49/US; Series: ABLS; Frequency: 13.5MHz; Load Capacitance: 18pF
footprint ABRACON ABLS
pins: 1, 2

## ABLS-13.4916MHZ-10-R20-D-T
designator Y?, comment 13.4916MHz
CRYSTAL 13.4916MHZ 10PF SMD; Part Number: ABLS-13.4916MHZ-10-R20-D-T; Manufacturer: Abracon LLC; Frequency Stability: 50ppm; ESR: 50 Ohm; Operating Mode: Fundamental; PartId: 8610; Supplier 1: Digi-Key; Supplier Part Number 1: 535-9805-2-ND; ComponentLink1Description: Datasheet; ComponentLink1URL: http://www.abracon.com/Resonators/abls.pdf; ComponentLink2Description: Digi-Key Listing; ComponentLink2URL: https://www.digikey.com/product-detail/en/ABLS-13.4916MHZ-10-R20-D-T/535-9805-2-ND/1916857; Price: 0.39; Type: MHz Crystal; Device Package: HC49/US; Series: ABLS; Frequency: 13.4916MHz; Frequency Tolerance: 50ppm; Load Capacitance: 10pF
footprint ABRACON ABLS
pins: 1, 2

## ABLS-13.262250MHZ-10-J4Y-T
designator Y?, comment 13.26225MHz
CRYSTAL 13.26225MHZ 10PF SMD; Part Number: ABLS-13.262250MHZ-10-J4Y-T; Manufacturer: Abracon LLC; Frequency Stability: 30ppm; ESR: 50 Ohm; Operating Mode: Fundamental; PartId: 8629; Supplier 1: Digi-Key; Supplier Part Number 1: 535-9703-2-ND; ComponentLink1Description: Datasheet; ComponentLink1URL: http://www.abracon.com/Resonators/abls.pdf; ComponentLink2Description: Digi-Key Listing; ComponentLink2URL: https://www.digikey.com/product-detail/en/ABLS-13.262250MHZ-10-J4Y-T/535-9703-2-ND/1856900; Price: 0.39; Type: MHz Crystal; Device Package: HC49/US; Series: ABLS; Frequency: 13.26225MHz; Frequency Tolerance: 30ppm; Load Capacitance: 10pF
footprint ABRACON ABLS
pins: 1, 2

## ABLS-14.7456MHZ-B2-T
designator Y?, comment 14.7456MHz
CRYSTAL 14.7456MHZ 18PF SMD; Part Number: ABLS-14.7456MHZ-B2-T; Manufacturer: Abracon LLC; Frequency Stability: 50ppm; Frequency Tolerance: 20ppm; ESR: 50 Ohm; Operating Mode: Fundamental; PartId: 8576; Supplier 1: Digi-Key; Supplier Part Number 1: 535-9070-2-ND; ComponentLink1Description: Datasheet; ComponentLink1URL: http://www.abracon.com/Resonators/abls.pdf; ComponentLink2Description: Digi-Key Listing; ComponentLink2URL: https://www.digikey.com/product-detail/en/ABLS-14.7456MHZ-B2-T/535-9070-2-ND/675265; Price: 0.24; Type: MHz Crystal; Device Package: HC49/US; Series: ABLS; Frequency: 14.7456MHz; Load Capacitance: 18pF
footprint ABRACON ABLS
pins: 1, 2

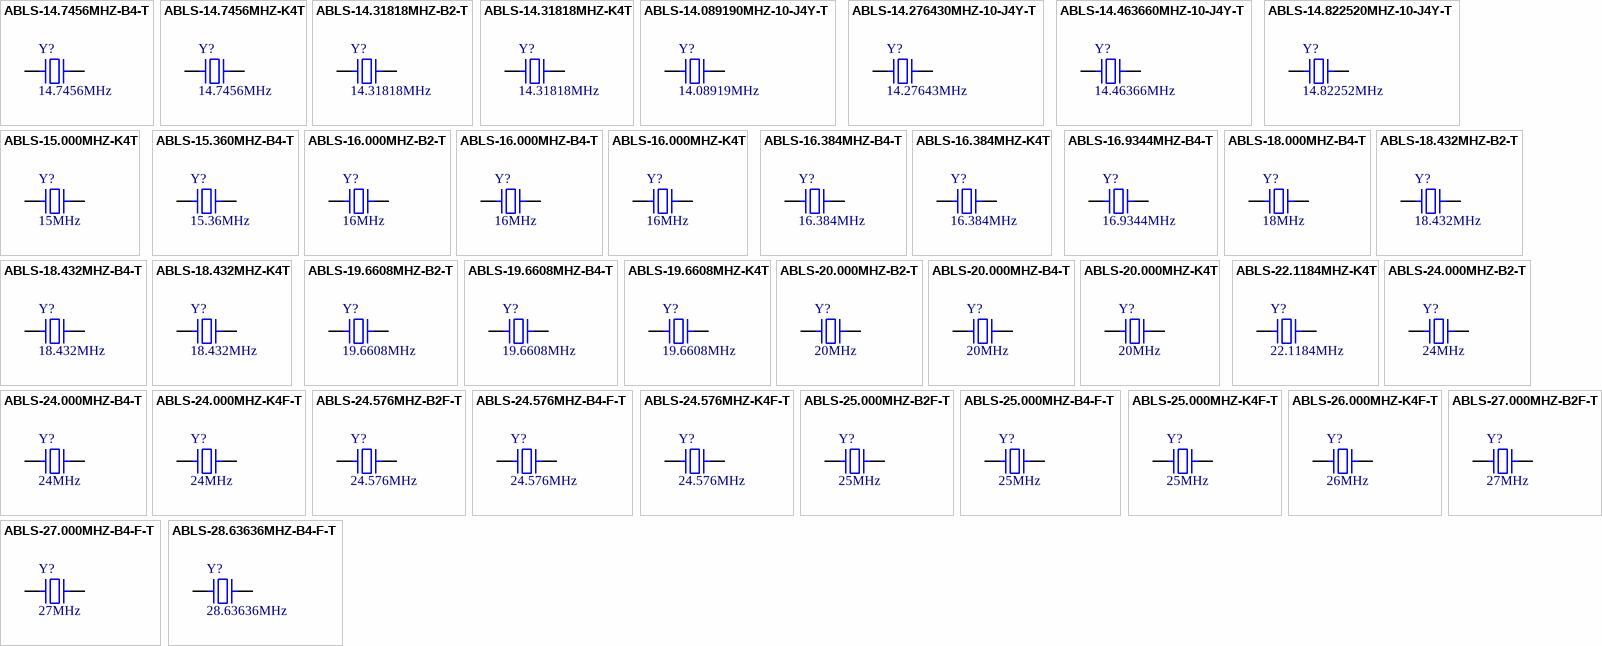
[diagram p3: symbols ABLS-14.7456MHZ-B4-T to ABLS-28.63636MHZ-B4-F-T]

## ABLS-14.7456MHZ-B4-T
designator Y?, comment 14.7456MHz
CRYSTAL 14.7456MHZ 18PF SMD; Part Number: ABLS-14.7456MHZ-B4-T; Manufacturer: Abracon LLC; Frequency Stability: 50ppm; Frequency Tolerance: 30ppm; ESR: 50 Ohm; Operating Mode: Fundamental; PartId: 8598; Supplier 1: Digi-Key; Supplier Part Number 1: 535-10223-2-ND; ComponentLink1Description: Datasheet; ComponentLink1URL: http://www.abracon.com/Resonators/abls.pdf; ComponentLink2Description: Digi-Key Listing; ComponentLink2URL: https://www.digikey.com/product-detail/en/ABLS-14.7456MHZ-B4-T/535-10223-2-ND/2184166; Price: 0.176; Type: MHz Crystal; Device Package: HC49/US; Series: ABLS; Frequency: 14.7456MHz; Load Capacitance: 18pF
footprint ABRACON ABLS
pins: 1, 2

## ABLS-14.7456MHZ-K4T
designator Y?, comment 14.7456MHz
CRYSTAL 14.7456MHZ 18PF SMD; Part Number: ABLS-14.7456MHZ-K4T; Manufacturer: Abracon LLC; Frequency Stability: 50ppm; Frequency Tolerance: 30ppm; ESR: 50 Ohm; Operating Mode: Fundamental; PartId: 8593; Supplier 1: Digi-Key; Supplier Part Number 1: 535-9946-2-ND; ComponentLink1Description: Datasheet; ComponentLink1URL: http://www.abracon.com/Resonators/abls.pdf; ComponentLink2Description: Digi-Key Listing; ComponentLink2URL: https://www.digikey.com/product-detail/en/ABLS-14.7456MHZ-K4T/535-9946-2-ND/2001313; Price: 0.405; Type: MHz Crystal; Device Package: HC49/US; Series: ABLS; Frequency: 14.7456MHz; Load Capacitance: 18pF
footprint ABRACON ABLS
pins: 1, 2

## ABLS-14.31818MHZ-B2-T
designator Y?, comment 14.31818MHz
CRYSTAL 14.31818MHZ 18PF SMD; Part Number: ABLS-14.31818MHZ-B2-T; Manufacturer: Abracon LLC; Frequency Stability: 50ppm; Frequency Tolerance: 20ppm; ESR: 50 Ohm; Operating Mode: Fundamental; PartId: 8588; Supplier 1: Digi-Key; Supplier Part Number 1: 535-9069-2-ND; ComponentLink1Description: Datasheet; ComponentLink1URL: http://www.abracon.com/Resonators/abls.pdf; ComponentLink2Description: Digi-Key Listing; ComponentLink2URL: https://www.digikey.com/product-detail/en/ABLS-14.31818MHZ-B2-T/535-9069-2-ND/675264; Price: 0.24; Type: MHz Crystal; Device Package: HC49/US; Series: ABLS; Frequency: 14.31818MHz; Load Capacitance: 18pF
footprint ABRACON ABLS
pins: 1, 2

## ABLS-14.31818MHZ-K4T
designator Y?, comment 14.31818MHz
CRYSTAL 14.31818MHZ 18PF SMD; Part Number: ABLS-14.31818MHZ-K4T; Manufacturer: Abracon LLC; Frequency Stability: 50ppm; Frequency Tolerance: 30ppm; ESR: 50 Ohm; Operating Mode: Fundamental; PartId: 8618; Supplier 1: Digi-Key; Supplier Part Number 1: 535-9945-2-ND; ComponentLink1Description: Datasheet; ComponentLink1URL: http://www.abracon.com/Resonators/abls.pdf; ComponentLink2Description: Digi-Key Listing; ComponentLink2URL: https://www.digikey.com/product-detail/en/ABLS-14.31818MHZ-K4T/535-9945-2-ND/2001312; Price: 0.405; Type: MHz Crystal; Device Package: HC49/US; Series: ABLS; Frequency: 14.31818MHz; Load Capacitance: 18pF
footprint ABRACON ABLS
pins: 1, 2

## ABLS-14.089190MHZ-10-J4Y-T
designator Y?, comment 14.08919MHz
CRYSTAL 14.08919MHZ 10PF SMD; Part Number: ABLS-14.089190MHZ-10-J4Y-T; Manufacturer: Abracon LLC; Frequency Stability: 30ppm; ESR: 50 Ohm; Operating Mode: Fundamental; PartId: 8611; Supplier 1: Digi-Key; Supplier Part Number 1: 535-9705-2-ND; ComponentLink1Description: Datasheet; ComponentLink1URL: http://www.abracon.com/Resonators/abls.pdf; ComponentLink2Description: Digi-Key Listing; ComponentLink2URL: https://www.digikey.com/product-detail/en/ABLS-14.089190MHZ-10-J4Y-T/535-9705-2-ND/1856902; Price: 0.39; Type: MHz Crystal; Device Package: HC49/US; Series: ABLS; Frequency: 14.08919MHz; Frequency Tolerance: 30ppm; Load Capacitance: 10pF
footprint ABRACON ABLS
pins: 1, 2

## ABLS-14.276430MHZ-10-J4Y-T
designator Y?, comment 14.27643MHz
CRYSTAL 14.27643MHZ 10PF SMD; Part Number: ABLS-14.276430MHZ-10-J4Y-T; Manufacturer: Abracon LLC; Frequency Stability: 30ppm; ESR: 50 Ohm; Operating Mode: Fundamental; PartId: 8632; Supplier 1: Digi-Key; Supplier Part Number 1: 535-9706-2-ND; ComponentLink1Description: Datasheet; ComponentLink1URL: http://www.abracon.com/Resonators/abls.pdf; ComponentLink2Description: Digi-Key Listing; ComponentLink2URL: https://www.digikey.com/product-detail/en/ABLS-14.276430MHZ-10-J4Y-T/535-9706-2-ND/1856903; Price: 0.39; Type: MHz Crystal; Device Package: HC49/US; Series: ABLS; Frequency: 14.27643MHz; Frequency Tolerance: 30ppm; Load Capacitance: 10pF
footprint ABRACON ABLS
pins: 1, 2

## ABLS-14.463660MHZ-10-J4Y-T
designator Y?, comment 14.46366MHz
CRYSTAL 14.46366MHZ 10PF SMD; Part Number: ABLS-14.463660MHZ-10-J4Y-T; Manufacturer: Abracon LLC; Frequency Stability: 30ppm; ESR: 50 Ohm; Operating Mode: Fundamental; PartId: 8630; Supplier 1: Digi-Key; Supplier Part Number 1: 535-9708-2-ND; ComponentLink1Description: Datasheet; ComponentLink1URL: http://www.abracon.com/Resonators/abls.pdf; ComponentLink2Description: Digi-Key Listing; ComponentLink2URL: https://www.digikey.com/product-detail/en/ABLS-14.463660MHZ-10-J4Y-T/535-9708-2-ND/1856905; Price: 0.39; Type: MHz Crystal; Device Package: HC49/US; Series: ABLS; Frequency: 14.46366MHz; Frequency Tolerance: 30ppm; Load Capacitance: 10pF
footprint ABRACON ABLS
pins: 1, 2

## ABLS-14.822520MHZ-10-J4Y-T
designator Y?, comment 14.82252MHz
CRYSTAL 14.82252MHZ 10PF SMD; Part Number: ABLS-14.822520MHZ-10-J4Y-T; Manufacturer: Abracon LLC; Frequency Stability: 30ppm; ESR: 50 Ohm; Operating Mode: Fundamental; PartId: 8631; Supplier 1: Digi-Key; Supplier Part Number 1: 535-9709-2-ND; ComponentLink1Description: Datasheet; ComponentLink1URL: http://www.abracon.com/Resonators/abls.pdf; ComponentLink2Description: Digi-Key Listing; ComponentLink2URL: https://www.digikey.com/product-detail/en/ABLS-14.822520MHZ-10-J4Y-T/535-9709-2-ND/1856906; Price: 0.39; Type: MHz Crystal; Device Package: HC49/US; Series: ABLS; Frequency: 14.82252MHz; Frequency Tolerance: 30ppm; Load Capacitance: 10pF
footprint ABRACON ABLS
pins: 1, 2

## ABLS-15.000MHZ-K4T
designator Y?, comment 15MHz
CRYSTAL 15.0000MHZ 18PF SMD; Part Number: ABLS-15.000MHZ-K4T; Manufacturer: Abracon LLC; Frequency Stability: 50ppm; Frequency Tolerance: 30ppm; ESR: 50 Ohm; Operating Mode: Fundamental; PartId: 8615; Supplier 1: Digi-Key; Supplier Part Number 1: 535-9947-2-ND; ComponentLink1Description: Datasheet; ComponentLink1URL: http://www.abracon.com/Resonators/abls.pdf; ComponentLink2Description: Digi-Key Listing; ComponentLink2URL: https://www.digikey.com/product-detail/en/ABLS-15.000MHZ-K4T/535-9947-2-ND/2001314; Price: 0.405; Type: MHz Crystal; Device Package: HC49/US; Series: ABLS; Frequency: 15MHz; Load Capacitance: 18pF
footprint ABRACON ABLS
pins: 1, 2

## ABLS-15.360MHZ-B4-T
designator Y?, comment 15.36MHz
CRYSTAL 15.3600MHZ 18PF SMD; Part Number: ABLS-15.360MHZ-B4-T; Manufacturer: Abracon LLC; Frequency Stability: 50ppm; Frequency Tolerance: 30ppm; ESR: 50 Ohm; Operating Mode: Fundamental; PartId: 8606; Supplier 1: Digi-Key; Supplier Part Number 1: 535-10225-2-ND; ComponentLink1Description: Datasheet; ComponentLink1URL: http://www.abracon.com/Resonators/abls.pdf; ComponentLink2Description: Digi-Key Listing; ComponentLink2URL: https://www.digikey.com/product-detail/en/ABLS-15.360MHZ-B4-T/535-10225-2-ND/2184168; Price: 0.176; Type: MHz Crystal; Device Package: HC49/US; Series: ABLS; Frequency: 15.36MHz; Load Capacitance: 18pF
footprint ABRACON ABLS
pins: 1, 2

## ABLS-16.000MHZ-B2-T
designator Y?, comment 16MHz
CRYSTAL 16.0000MHZ 18PF SMD; Part Number: ABLS-16.000MHZ-B2-T; Manufacturer: Abracon LLC; Frequency Stability: 50ppm; Frequency Tolerance: 20ppm; ESR: 40 Ohm; Operating Mode: Fundamental; PartId: 8567; Supplier 1: Digi-Key; Supplier Part Number 1: 535-9071-2-ND; ComponentLink1Description: Datasheet; ComponentLink1URL: http://www.abracon.com/Resonators/abls.pdf; ComponentLink2Description: Digi-Key Listing; ComponentLink2URL: https://www.digikey.com/product-detail/en/ABLS-16.000MHZ-B2-T/535-9071-2-ND/675266; Price: 0.176; Type: MHz Crystal; Device Package: HC49/US; Series: ABLS; Frequency: 16MHz; Load Capacitance: 18pF
footprint ABRACON ABLS
pins: 1, 2

## ABLS-16.000MHZ-B4-T
designator Y?, comment 16MHz
CRYSTAL 16.0000MHZ 18PF SMD; Part Number: ABLS-16.000MHZ-B4-T; Manufacturer: Abracon LLC; Frequency Stability: 50ppm; Frequency Tolerance: 30ppm; ESR: 40 Ohm; Operating Mode: Fundamental; PartId: 8546; Supplier 1: Digi-Key; Supplier Part Number 1: 535-10226-2-ND; ComponentLink1Description: Datasheet; ComponentLink1URL: http://www.abracon.com/Resonators/abls.pdf; ComponentLink2Description: Digi-Key Listing; ComponentLink2URL: https://www.digikey.com/product-detail/en/ABLS-16.000MHZ-B4-T/535-10226-2-ND/2184169; Price: 0.1376; Type: MHz Crystal; Device Package: HC49/US; Series: ABLS; Frequency: 16MHz; Load Capacitance: 18pF
footprint ABRACON ABLS
pins: 1, 2

## ABLS-16.000MHZ-K4T
designator Y?, comment 16MHz
CRYSTAL 16.0000MHZ 18PF SMD; Part Number: ABLS-16.000MHZ-K4T; Manufacturer: Abracon LLC; Frequency Stability: 50ppm; Frequency Tolerance: 30ppm; ESR: 40 Ohm; Operating Mode: Fundamental; PartId: 8579; Supplier 1: Digi-Key; Supplier Part Number 1: 535-9948-2-ND; ComponentLink1Description: Datasheet; ComponentLink1URL: http://www.abracon.com/Resonators/abls.pdf; ComponentLink2Description: Digi-Key Listing; ComponentLink2URL: https://www.digikey.com/product-detail/en/ABLS-16.000MHZ-K4T/535-9948-2-ND/2001315; Price: 0.405; Type: MHz Crystal; Device Package: HC49/US; Series: ABLS; Frequency: 16MHz; Load Capacitance: 18pF
footprint ABRACON ABLS
pins: 1, 2

## ABLS-16.384MHZ-B4-T
designator Y?, comment 16.384MHz
CRYSTAL 16.3840MHZ 18PF SMD; Part Number: ABLS-16.384MHZ-B4-T; Manufacturer: Abracon LLC; Frequency Stability: 50ppm; Frequency Tolerance: 30ppm; ESR: 40 Ohm; Operating Mode: Fundamental; PartId: 8607; Supplier 1: Digi-Key; Supplier Part Number 1: 535-10227-2-ND; ComponentLink1Description: Datasheet; ComponentLink1URL: http://www.abracon.com/Resonators/abls.pdf; ComponentLink2Description: Digi-Key Listing; ComponentLink2URL: https://www.digikey.com/product-detail/en/ABLS-16.384MHZ-B4-T/535-10227-2-ND/2184170; Price: 0.176; Type: MHz Crystal; Device Package: HC49/US; Series: ABLS; Frequency: 16.384MHz; Load Capacitance: 18pF
footprint ABRACON ABLS
pins: 1, 2

## ABLS-16.384MHZ-K4T
designator Y?, comment 16.384MHz
CRYSTAL 16.3840MHZ 18PF SMD; Part Number: ABLS-16.384MHZ-K4T; Manufacturer: Abracon LLC; Frequency Stability: 50ppm; Frequency Tolerance: 30ppm; ESR: 40 Ohm; Operating Mode: Fundamental; PartId: 8620; Supplier 1: Digi-Key; Supplier Part Number 1: 535-9949-2-ND; ComponentLink1Description: Datasheet; ComponentLink1URL: http://www.abracon.com/Resonators/abls.pdf; ComponentLink2Description: Digi-Key Listing; ComponentLink2URL: https://www.digikey.com/product-detail/en/ABLS-16.384MHZ-K4T/535-9949-2-ND/2001316; Price: 0.405; Type: MHz Crystal; Device Package: HC49/US; Series: ABLS; Frequency: 16.384MHz; Load Capacitance: 18pF
footprint ABRACON ABLS
pins: 1, 2

## ABLS-16.9344MHZ-B4-T
designator Y?, comment 16.9344MHz
CRYSTAL 16.9344MHZ 18PF SMD; Part Number: ABLS-16.9344MHZ-B4-T; Manufacturer: Abracon LLC; Frequency Stability: 50ppm; Frequency Tolerance: 30ppm; ESR: 40 Ohm; Operating Mode: Fundamental; PartId: 8604; Supplier 1: Digi-Key; Supplier Part Number 1: 535-10228-2-ND; ComponentLink1Description: Datasheet; ComponentLink1URL: http://www.abracon.com/Resonators/abls.pdf; ComponentLink2Description: Digi-Key Listing; ComponentLink2URL: https://www.digikey.com/product-detail/en/ABLS-16.9344MHZ-B4-T/535-10228-2-ND/2184171; Price: 0.176; Type: MHz Crystal; Device Package: HC49/US; Series: ABLS; Frequency: 16.9344MHz; Load Capacitance: 18pF
footprint ABRACON ABLS
pins: 1, 2

## ABLS-18.000MHZ-B4-T
designator Y?, comment 18MHz
CRYSTAL 18.0000MHZ 18PF SMD; Part Number: ABLS-18.000MHZ-B4-T; Manufacturer: Abracon LLC; Frequency Stability: 50ppm; Frequency Tolerance: 30ppm; ESR: 40 Ohm; Operating Mode: Fundamental; PartId: 8573; Supplier 1: Digi-Key; Supplier Part Number 1: 535-10229-2-ND; ComponentLink1Description: Datasheet; ComponentLink1URL: http://www.abracon.com/Resonators/abls.pdf; ComponentLink2Description: Digi-Key Listing; ComponentLink2URL: https://www.digikey.com/product-detail/en/ABLS-18.000MHZ-B4-T/535-10229-2-ND/2184172; Price: 0.176; Type: MHz Crystal; Device Package: HC49/US; Series: ABLS; Frequency: 18MHz; Load Capacitance: 18pF
footprint ABRACON ABLS
pins: 1, 2

## ABLS-18.432MHZ-B2-T
designator Y?, comment 18.432MHz
CRYSTAL 18.4320MHZ 18PF SMD; Part Number: ABLS-18.432MHZ-B2-T; Manufacturer: Abracon LLC; Frequency Stability: 50ppm; Frequency Tolerance: 20ppm; ESR: 40 Ohm; Operating Mode: Fundamental; PartId: 8566; Supplier 1: Digi-Key; Supplier Part Number 1: 535-9072-2-ND; ComponentLink1Description: Datasheet; ComponentLink1URL: http://www.abracon.com/Resonators/abls.pdf; ComponentLink2Description: Digi-Key Listing; ComponentLink2URL: https://www.digikey.com/product-detail/en/ABLS-18.432MHZ-B2-T/535-9072-2-ND/675267; Price: 0.176; Type: MHz Crystal; Device Package: HC49/US; Series: ABLS; Frequency: 18.432MHz; Load Capacitance: 18pF
footprint ABRACON ABLS
pins: 1, 2

## ABLS-18.432MHZ-B4-T
designator Y?, comment 18.432MHz
CRYSTAL 18.4320MHZ 18PF SMD; Part Number: ABLS-18.432MHZ-B4-T; Manufacturer: Abracon LLC; Frequency Stability: 50ppm; Frequency Tolerance: 30ppm; ESR: 40 Ohm; Operating Mode: Fundamental; PartId: 8605; Supplier 1: Digi-Key; Supplier Part Number 1: 535-10230-2-ND; ComponentLink1Description: Datasheet; ComponentLink1URL: http://www.abracon.com/Resonators/abls.pdf; ComponentLink2Description: Digi-Key Listing; ComponentLink2URL: https://www.digikey.com/product-detail/en/ABLS-18.432MHZ-B4-T/535-10230-2-ND/2184173; Price: 0.176; Type: MHz Crystal; Device Package: HC49/US; Series: ABLS; Frequency: 18.432MHz; Load Capacitance: 18pF
footprint ABRACON ABLS
pins: 1, 2